# Altium schematic symbol library MAX19506ETM+.Schlib: 1 symbol
Pins are listed as number, name and electrical type; pins without a type are passive.

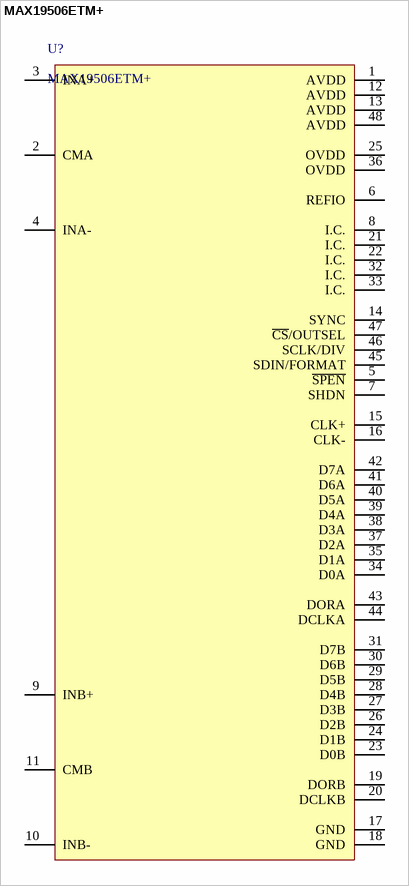
[diagram p0: symbol MAX19506ETM+]

## MAX19506ETM+
designator U?
8 Bit Analog to Digital Converter 2 Input 2 Pipelined 48-TQFN (7x7)
pins: 1 AVDD, 2 CMA, 3 INA+, 4 INA-, 5 ~{SPEN}, 6 REFIO, 7 SHDN, 8 I.C., 9 INB+, 10 INB-, 11 CMB, 12 AVDD, 13 AVDD, 14 SYNC, 15 CLK+, 16 CLK-, 17 GND, 18 GND, 19 DORB, 20 DCLKB, 21 I.C., 22 I.C., 23 D0B, 24 D1B, 25 OVDD, 26 D2B, 27 D3B, 28 D4B, 29 D5B, 30 D6B, 31 D7B, 32 I.C., 33 I.C., 34 D0A, 35 D1A, 36 OVDD, 37 D2A, 38 D3A, 39 D4A, 40 D5A, 41 D6A, 42 D7A, 43 DORA, 44 DCLKA, 45 SDIN/FORMAT, 46 SCLK/DIV, 47 ~{CS}/OUTSEL, 48 AVDD